# EAGLE library part ADA3708 (library ADA3708)
Raspberry Pi Zero WH (Zero W with Headers)
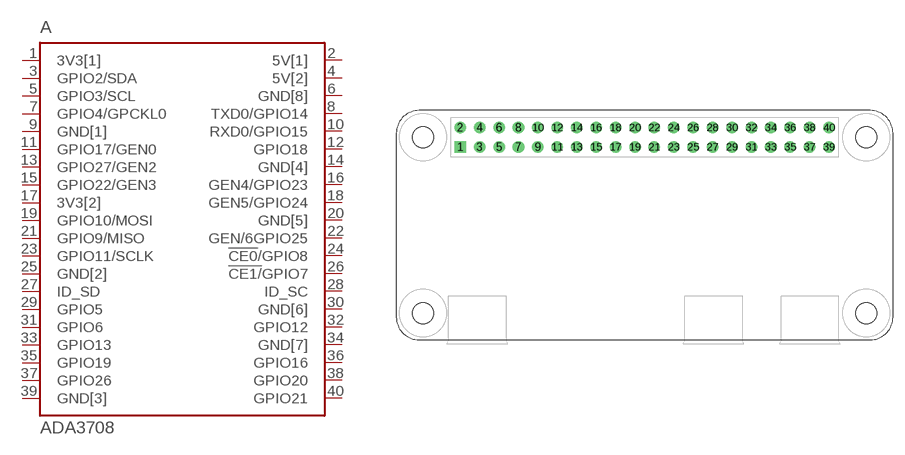
[diagram p0: symbol with the pads of ADA3708_RPI-ZERO; footprint ADA3708_RPI-ZERO]

Designator prefix A

## ADA3708 (Availability: Unavailable; Description: Raspberry Pi Zero WH _Zero W with Headers_; MF: Raspberry Pi; MP: ADA3708; Package: None; Price: None)  [ADA3708_RPI-ZERO]
1  3V3[1]  pwr
2  5V[1]  pwr
3  GPIO2/SDA
4  5V[2]  pwr
5  GPIO3/SCL
6  GND[8]  pwr
7  GPIO4/GPCKL0
8  TXD0/GPIO14
9  GND[1]  pwr
10  RXD0/GPIO15
11  GPIO17/GEN0
12  GPIO18
13  GPIO27/GEN2
14  GND[4]  pwr
15  GPIO22/GEN3
16  GEN4/GPIO23
17  3V3[2]  pwr
18  GEN5/GPIO24
19  GPIO10/MOSI
20  GND[5]  pwr
21  GPIO9/MISO
22  GEN/6GPIO25
23  GPIO11/SCLK
24  !CE0!/GPIO8
25  GND[2]  pwr
26  !CE1/!GPIO7
27  ID_SD
28  ID_SC
29  GPIO5
30  GND[6]  pwr
31  GPIO6
32  GPIO12
33  GPIO13
34  GND[7]  pwr
35  GPIO19
36  GPIO16
37  GPIO26
38  GPIO20
39  GND[3]  pwr
40  GPIO21

## Footprint ADA3708_RPI-ZERO (pad centres in mm)
Raspberry Pi board model B+, full outline with position of big connectors & drill holes
drill 1 square: 1 -24.13,-1.27
drill 1: 2 -24.13,1.27; 3 -21.59,-1.27; 4 -21.59,1.27; 5 -19.05,-1.27; 6 -19.05,1.27; 7 -16.51,-1.27; 8 -16.51,1.27; 9 -13.97,-1.27; 10 -13.97,1.27; 11 -11.43,-1.27; 12 -11.43,1.27; 13 -8.89,-1.27; 14 -8.89,1.27; 15 -6.35,-1.27; 16 -6.35,1.27; 17 -3.81,-1.27; 18 -3.81,1.27; 19 -1.27,-1.27; 20 -1.27,1.27; 21 1.27,-1.27; 22 1.27,1.27; 23 3.81,-1.27; 24 3.81,1.27; 25 6.35,-1.27; 26 6.35,1.27; 27 8.89,-1.27; 28 8.89,1.27; 29 11.43,-1.27; 30 11.43,1.27; 31 13.97,-1.27; 32 13.97,1.27; 33 16.51,-1.27; 34 16.51,1.27; 35 19.05,-1.27; 36 19.05,1.27; 37 21.59,-1.27; 38 21.59,1.27; 39 24.13,-1.27; 40 24.13,1.27
hole 2.75 at -29,-23
hole 2.75 at -29,0
hole 2.75 at 29,-23
hole 2.75 at 29,0